# Altium footprint library WURTH_74435561100.PcbLib: 1 footprints
Each footprint in its own frame and in the unit in brackets; x right, y up, seen from the top. Pads: shape width x height; smd on the part's side, far side on the other; paste and mask are expansions set on the pad; w line width, h text height; cw(c..) or ccw(c..) is an arc to the next point about the centre after c.
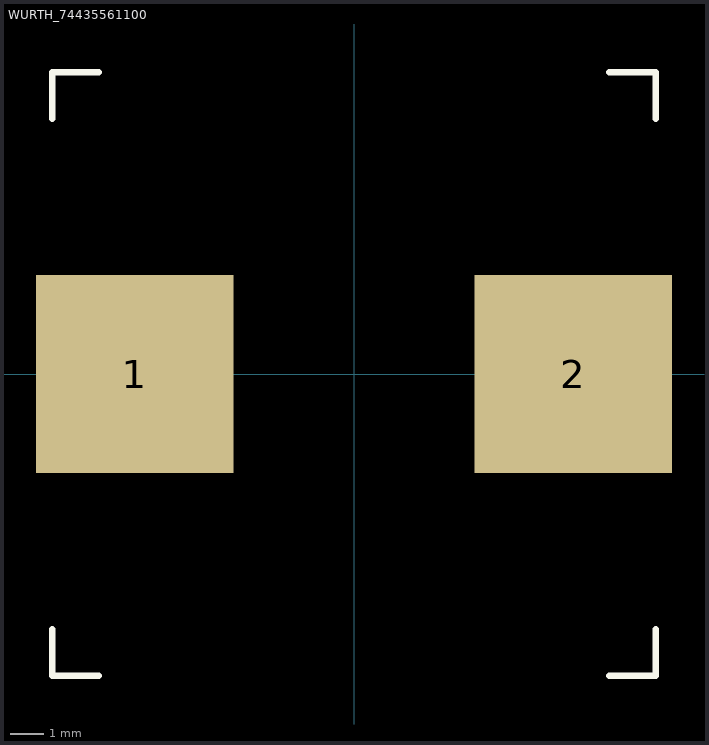
[diagram p0: the footprint, top view; thin cyan lines are the x and y axes]

## WURTH_74435561100 [mm] "WE-HCI Series"
pads (2):
  rect 6x6 smd: 1(-6.65,0) 2(6.65,0)
Top Overlay:
  lines w0.2: -9.15,-7.75 -9.15,-9.15 -7.75,-9.15 ; -9.15,7.75 -9.15,9.15 -7.75,9.15 ; 7.75,-9.15 9.15,-9.15 9.15,-7.75 ; 7.75,9.15 9.15,9.15 9.15,7.75
3D body: height 9, standoff 0, extent -9.15,-9.15 9.15,9.15